# EAGLE library part MAX3051ESA+_MAX3051ESA+ (library MotorDriver)
CAN Transceiver 1 Mbit/s ISO 11898 Standby-Mode 8pins SOIC <https://componentsearchengine.com/Images/3/MAX3051ESA%2B.jpg> Source: Datasheet <http://datasheets.maximintegrated.com/en/ds/MAX3051.pdf>
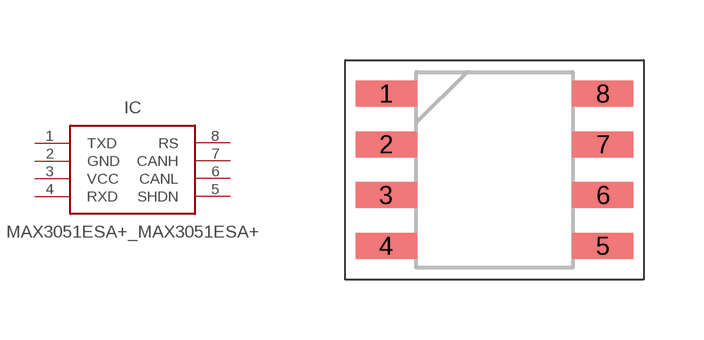
[diagram p1: symbol with the pads of MAX3051ESA+_SOIC127P600X175-8N; footprint MAX3051ESA+_SOIC127P600X175-8N]

Designator prefix IC

## MAX3051ESA+_MAX3051ESA+ (DESCRIPTION: CAN Transceiver 1 Mbit/s ISO 11898 Standby-Mode 8pins SOIC; HEIGHT: 1.75mm; MANUFACTURER_NAME: Maxim Integrated; MANUFACTURER_PART_NUMBER: MAX3051ESA+; RS_PART_NUMBER: 7329005; SUPPLIER_NAME: RS)  [MAX3051ESA+_SOIC127P600X175-8N]
1  TXD  in
2  GND  pwr
3  VCC  pwr
4  RXD  out
5  SHDN  in
6  CANL  pas
7  CANH  pas
8  RS  in

## Footprint MAX3051ESA+_SOIC127P600X175-8N (pad centres in mm)
8 SO
smd 1.525 x 0.65: 1 -2.712,1.905; 2 -2.712,0.635; 3 -2.712,-0.635; 4 -2.712,-1.905; 5 2.712,-1.905; 6 2.712,-0.635; 7 2.712,0.635; 8 2.712,1.905